# Altium schematic symbol library Relay.SchLib: 2 symbols
Pins are listed as number, name and electrical type; pins without a type are passive.

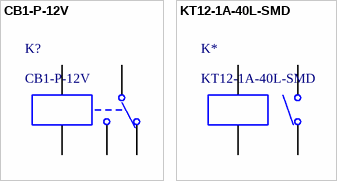
[diagram p0: symbols CB1-P-12V to KT12-1A-40L-SMD]

## CB1-P-12V
designator K?
Panasonic SPDT Power Relay, contact 40A @14V, coil 12VDC
footprint CB1-P-12V (Panasonic SPDT Power Relay, contact 40A @14V, coil 12VDC)
pins: 30 4, 85 1, 86 5, 87 3, 87a 2

## KT12-1A-40L-SMD
designator K*
KT Series Reed Relay
footprint KT12-1A-40L-SMD (KT Series Reed Relay)
pins: 1, 2, 3, 4